# Altium footprint library PcbLib1.PcbLib: 35 footprints (part 2 of 3)
Each footprint in its own frame and in the unit in brackets; x right, y up, seen from the top. Pads: shape width x height; smd on the part's side, far side on the other; paste and mask are expansions set on the pad; w line width, h text height; cw(c..) or ccw(c..) is an arc to the next point about the centre after c.
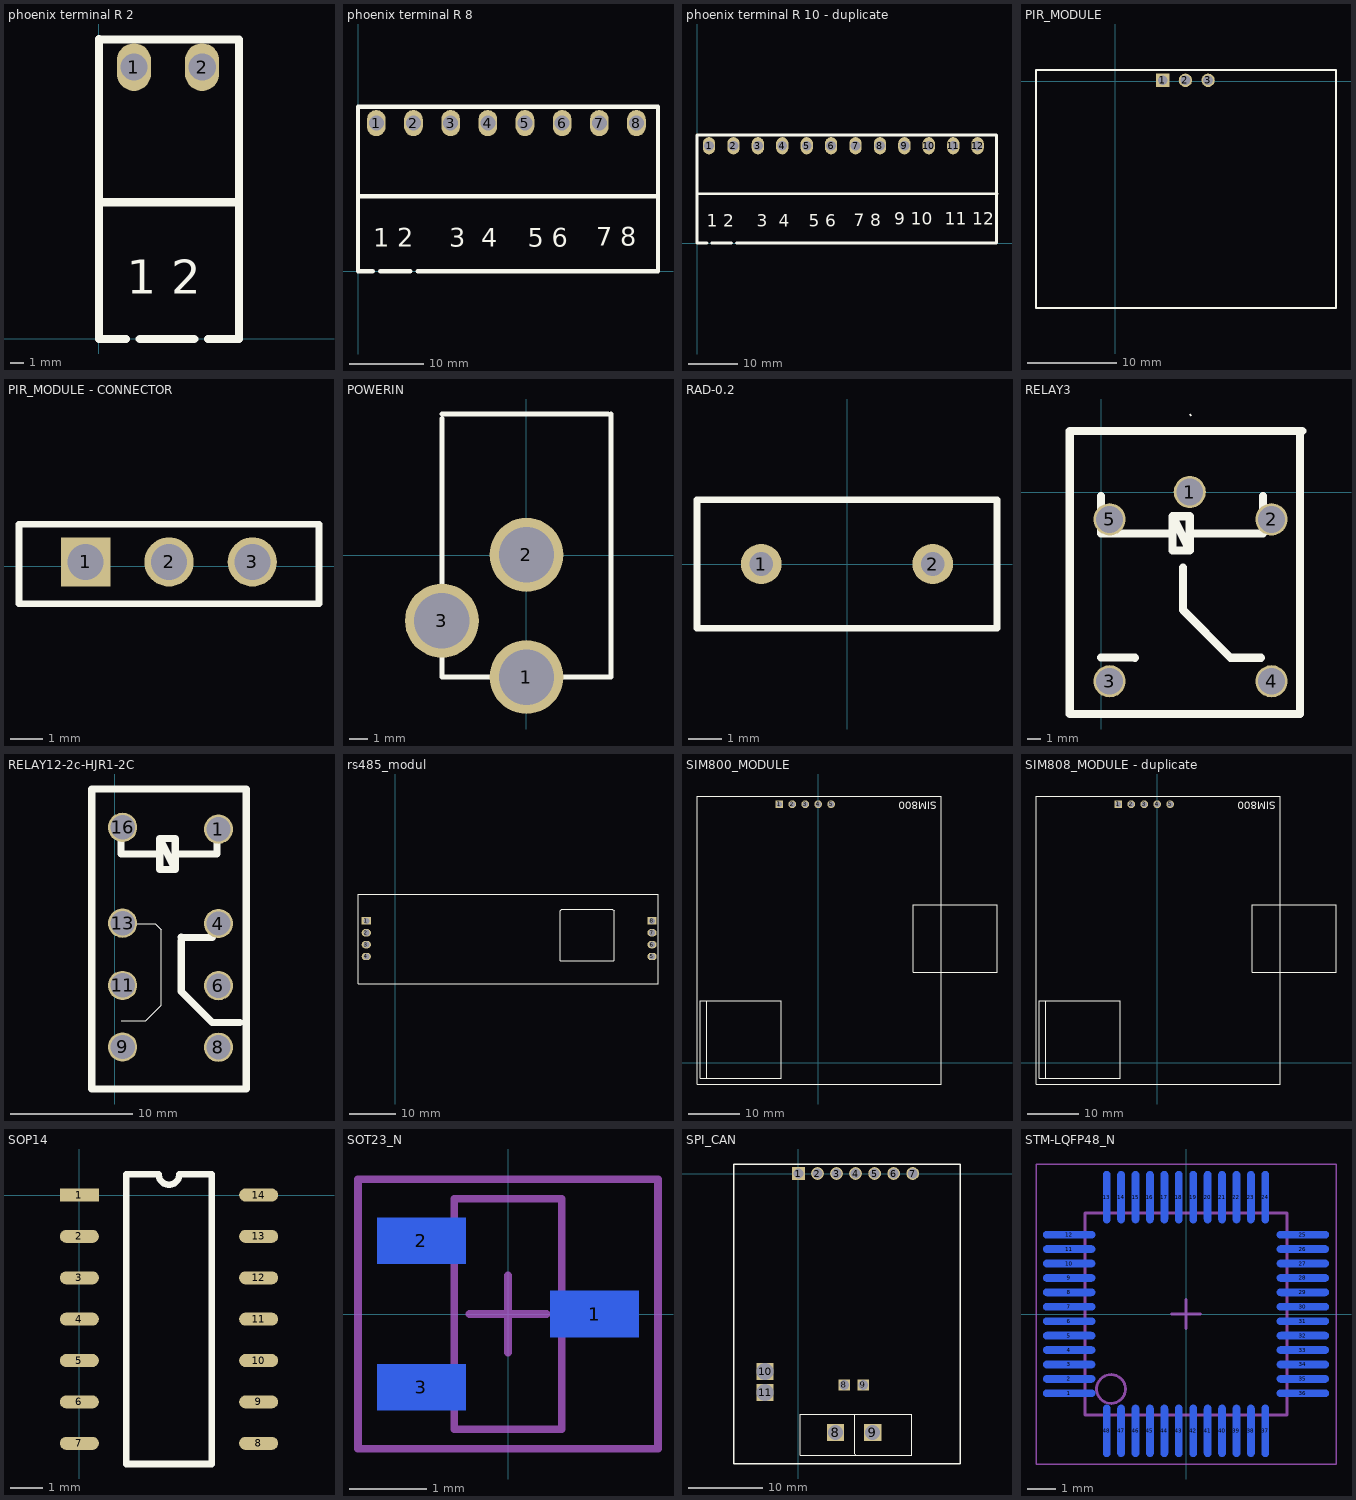
[diagram p1: the footprints below, top view; thin cyan lines are the x and y axes]

## phoenix terminal R 2 [mm] "2 Right terminals"
pads (2):
  oval 2.5x3.5 hole 2: 1(2.573,19.939) 2(7.573,19.939)
Top Overlay:
  lines w0.6: 0,21.971 10.287,21.971 10.287,0 8,0 ; 0,22 0,0 2,0 ; 0.127,10.033 10.287,10.033 ; 3,0 7,0
  text "1 2" at 2.032,3.302 h2.5

## phoenix terminal R 8 [mm] "2 Right terminals"
pads (8):
  oval 2.5x3.5 hole 2: 1(2.446,19.812) 2(7.418,19.812) 3(12.391,19.812) 4(17.363,19.812) 5(22.335,19.812) 6(27.308,19.812) 7(32.28,19.812) 8(37.252,19.812)
Top Overlay:
  lines w0.6: 0,21.971 40.132,21.971 40.132,0 8,0 ; 0,22 0,0 2,0 ; 0.127,10.033 40.132,10.033 ; 3,0 7,0
  text "7 8" at 31.877,3.429 h2.5
  text "5 6" at 22.733,3.302 h2.5
  text "3  4" at 12.192,3.302 h2.5
  text "1 2" at 2.032,3.302 h2.5

## phoenix terminal R 10 - duplicate [mm] "2 Right terminals"
pads (12):
  oval 2.5x3.5 hole 2: 1(2.446,19.812) 2(7.418,19.812) 3(12.391,19.812) 4(17.363,19.812) 5(22.335,19.812) 6(27.308,19.812) 7(32.28,19.812) 8(37.252,19.812) 9(42.225,19.812) 10(47.197,19.812) 11(52.169,19.812) 12(57.142,19.812)
Top Overlay:
  lines w0.6: 0,21.971 60.96,21.971 60.96,0 8,0 ; 0,22 0,0 2,0 ; 0.127,10.033 61.087,10.033 ; 3,0 7,0
  text "9 10" at 40.132,3.683 h2.5
  text "7 8" at 31.877,3.429 h2.5
  text "5 6" at 22.733,3.302 h2.5
  text "3  4" at 12.192,3.302 h2.5
  text "1 2" at 2.032,3.302 h2.5
  text "11 12" at 50.419,3.683 h2.5

## PIR_MODULE [mm] "Connector; Header; 3 Position"
pads (3):
  rect 1.5x1.5 hole 1.1: 1(5.334,0.127)
  round 1.5 hole 1.1: 2(7.874,0.127) 3(10.414,0.127)
Top Overlay:
  lines w0.2: -8.89,-25.4 -8.89,1.27 24.765,1.27 24.765,-25.4 -8.89,-25.4

## PIR_MODULE - CONNECTOR [mm] "Connector; Header; 3 Position"
pads (3):
  rect 1.5x1.5 hole 1.1: 1(5.334,0.127)
  round 1.5 hole 1.1: 2(7.874,0.127) 3(10.414,0.127)
Top Overlay:
  lines w0.2: 3.302,-1.143 12.446,-1.143 12.446,1.27 3.302,1.27 3.302,-1.143

## POWERIN [mm]
height 2.6
pads (3):
  round 4 hole 3: 1(0.007,-6.593) 2(0.007,0.011) 3(-4.565,-3.545)
Top Overlay:
  lines w0.254: -4.565,7.407 -4.565,-6.593 4.579,-6.593 4.579,7.631 ; -4.565,7.631 4.435,7.631

## RAD-0.2 [mm] "Radial Cap, Thru-Hole; 2 Leads; 0.2 in Pin Spacing"
pads (2):
  round 1.2 hole 0.7: 1(-2.54,0) 2(2.54,0)
Top Overlay:
  lines w0.2: -4.445,-1.905 -4.445,1.905 4.445,1.905 4.445,-1.905 -4.445,-1.905

## RELAY3 [mm]
pads (5):
  round 2.4 hole 2: 1(6.604,0.025) 2(12.7,-2.007) 3(0.635,-14.072) 4(12.7,-14.072) 5(0.635,-2.007)
Top Overlay:
  lines w0.1: 6.604,5.842 6.731,5.715
  lines w0.6: 0,-12.294 2.54,-12.319 ; 0,-0.254 0,-3.048 5.334,-3.048 ; 6.096,-5.588 6.096,-8.763 9.652,-12.319 11.913,-12.319 ; 12.065,-0.254 12.065,-3.048 6.604,-3.048 ; 14.834,4.572 14.834,-16.51 -2.337,-16.51 -2.337,4.572 14.986,4.572 ; 5.334,-3.048 5.334,-1.778 ; 5.334,-3.048 5.334,-4.318 6.604,-4.318 ; 5.334,-1.778 6.604,-1.778 6.604,-3.048 ; 5.334,-1.778 6.604,-4.318 ; 6.604,-4.318 6.604,-3.048

## RELAY12-2c-HJR1-2C [mm]
pads (8):
  round 2.4 hole 2: 1(8.509,-6.35) 4(8.509,-14.097) 6(8.509,-19.202) 8(8.509,-24.257) 9(0.635,-24.232) 11(0.635,-19.177) 13(0.635,-14.072) 16(0.635,-6.198)
Top Overlay:
  lines w0.1: 0.508,-22.098 2.54,-22.098 3.81,-20.828 3.81,-14.605 3.302,-14.097 1.27,-14.097
  lines w0.6: 0.508,-5.588 0.508,-8.382 3.683,-8.382 ; 5.461,-15.494 5.461,-19.685 8.001,-22.225 10.262,-22.225 ; 5.461,-15.215 8.001,-15.24 ; 8.382,-5.588 8.382,-8.382 4.953,-8.382 ; 3.683,-8.382 3.683,-9.652 4.953,-9.652 ; 3.683,-8.382 3.683,-7.112 ; 3.683,-7.112 4.953,-9.652 ; 3.683,-7.112 4.953,-7.112 4.953,-8.382 ; 4.953,-9.652 4.953,-8.382 ; -1.905,-27.686 10.795,-27.686 10.795,-3.048 -1.905,-3.048 -1.905,-27.686

## rs485_modul [mm]
pads (8):
  rect 2x1.6 hole 1.3: 1(-6.223,-49.784) 8(54.991,-49.784)
  oval 2x1.6 hole 1.3: 2(-6.223,-52.324) 3(-6.223,-54.864) 4(-6.223,-57.404) 5(54.991,-57.404) 6(54.991,-54.864) 7(54.991,-52.324)
Top Overlay:
  lines w0.1: 35.306,-47.879 35.306,-47.625 ; 35.306,-47.625 35.687,-47.244 46.482,-47.244 46.863,-47.625 46.863,-58.166 46.736,-58.293 35.306,-58.293 35.306,-47.625
  lines w0.2: -8.001,-63.246 -8.001,-44.069 56.261,-44.069 56.261,-63.246 -8.001,-63.246

## SIM800_MODULE [mm] "Connector; Header; 5 Position"
pads (5):
  rect 1.5x1.5 hole 1.1: 1(-7.62,50.673)
  round 1.5 hole 1.1: 2(-5.08,50.673) 3(-2.54,50.673) 4(0,50.673) 5(2.54,50.673)
Top Overlay:
  lines w0.1: -21.844,-2.921 -21.844,12.065 ; 35.052,17.653 35.052,30.988 18.669,30.988 18.669,17.78 35.052,17.78 ; -23.114,-3.048 -7.239,-3.048 -7.239,12.192 -23.114,12.192 -23.114,-3.048
  lines w0.2: -14.859,52.197 11.049,52.197 ; -23.749,-4.191 -23.749,52.197 24.13,52.197 24.13,-4.191 -23.749,-4.191
  text "SIM800" at 23.241,51.181 h1.52

## SIM808_MODULE - duplicate [mm] "Connector; Header; 5 Position"
pads (5):
  rect 1.5x1.5 hole 1.1: 1(-7.62,50.673)
  round 1.5 hole 1.1: 2(-5.08,50.673) 3(-2.54,50.673) 4(0,50.673) 5(2.54,50.673)
Top Overlay:
  lines w0.1: -21.844,-2.921 -21.844,12.065 ; 35.052,17.653 35.052,30.988 18.669,30.988 18.669,17.78 35.052,17.78 ; -23.114,-3.048 -7.239,-3.048 -7.239,12.192 -23.114,12.192 -23.114,-3.048
  lines w0.2: -14.859,52.197 11.049,52.197 ; -23.749,-4.191 -23.749,52.197 24.13,52.197 24.13,-4.191 -23.749,-4.191
  text "SIM800" at 23.241,51.181 h1.52

## SOP14 [mm]
pads (14):
  rect 1.2x0.4 smd: 1(0,0)
  oval 1.2x0.4 smd: 2(0,-1.27) 3(0,-2.54) 4(0,-3.81) 5(0,-5.08) 6(0,-6.35) 7(0,-7.62) 8(5.5,-7.62) 9(5.5,-6.35) 10(5.5,-5.08) 11(5.5,-3.81) 12(5.5,-2.54) 13(5.5,-1.27) 14(5.5,0)
Top Overlay:
  lines w0.2: 1.435,-8.255 4.065,-8.255 4.065,0.635 3.067,0.635 cw(c2.75,0.635) 2.432,0.635 1.435,0.635 1.435,-8.255

## SOT23_N [mm] "SOT23, 3-Leads, Body 2.9x1.3mm, Pitch 0.95mm, Lead Span 2.3mm - Reverse Pinning, IPC Medium Density"
height 1.1
pads (3):
  rect 1.15x0.6 smd far side: 1(1.125,0) 2(-1.125,0.95) 3(-1.125,-0.95)
Bottom Overlay:
  circle w0.25: c1.35,-0.85 r0.125
  lines w0.2: -0.2,-1.5 0.7,-1.5 0.7,-0.7 ; -0.2,1.5 0.7,1.5 0.7,0.7
Mechanical 13:
  lines w0.1: -0.7,-1.5 0.7,-1.5 0.7,1.5 -0.7,1.5 -0.7,-1.5
Mechanical 15:
  lines w0.1: -0.5,0 0.5,0 ; 0,-0.5 0,0.5 ; -1.95,-1.75 1.95,-1.75 1.95,1.75 -1.95,1.75 -1.95,-1.75
3D body: height 1.1, standoff 0, extent -0.7,-1.5 0.7,1.5

## SPI_CAN [mm] "Connector; Header; 8 Position"
pads (13):
  rect 1.7x1.7 hole 1.3: 1(0,0)
  round 1.7 hole 1.3: 2(2.54,0) 3(5.08,0) 4(7.62,0) 5(10.16,0) 6(12.7,0) 7(15.24,0)
  rect 2.3x2.3 hole 2: 8(4.953,-34.544) 9(9.906,-34.544)
  rect 1.5x1.5 hole 1.3: 8(6.096,-28.194) 9(8.636,-28.194)
  rect 2.3x2.3 hole 2.3: 10(-4.445,-26.416) 11(-4.445,-29.21)
Top Overlay:
  lines w0.1: 0.762,-37.592 15.113,-37.592 15.113,-32.131 0.254,-32.131 0.254,-37.592 1.143,-37.592 ; 7.493,-32.131 7.493,-37.338 7.62,-37.465
  lines w0.2: -8.636,-38.735 -8.636,1.27 21.59,1.27 21.59,-38.735 -8.636,-38.735

## STM-LQFP48_N [mm] "QFP, 48-Leads, Body 7x7mm, Pitch 0.5mm, IPC Medium Density"
height 1.6
pads (48):
  oval 1.8x0.254 smd far side: 1(-4.05,-2.75) 2(-4.05,-2.25) 3(-4.05,-1.75) 4(-4.05,-1.25) 5(-4.05,-0.75) 6(-4.05,-0.25) 7(-4.05,0.25) 8(-4.05,0.75) 9(-4.05,1.25) 10(-4.05,1.75) 11(-4.05,2.25) 12(-4.05,2.75) 25(4.05,2.75) 26(4.05,2.25) 27(4.05,1.75) 28(4.05,1.25) 29(4.05,0.75) 30(4.05,0.25) 31(4.05,-0.25) 32(4.05,-0.75) 33(4.05,-1.25) 34(4.05,-1.75) 35(4.05,-2.25) 36(4.05,-2.75)
  oval 0.254x1.8 smd far side: 13(-2.75,4.05) 14(-2.25,4.05) 15(-1.75,4.05) 16(-1.25,4.05) 17(-0.75,4.05) 18(-0.25,4.05) 19(0.25,4.05) 20(0.75,4.05) 21(1.25,4.05) 22(1.75,4.05) 23(2.25,4.05) 24(2.75,4.05) 37(2.75,-4.05) 38(2.25,-4.05) 39(1.75,-4.05) 40(1.25,-4.05) 41(0.75,-4.05) 42(0.25,-4.05) 43(-0.25,-4.05) 44(-0.75,-4.05) 45(-1.25,-4.05) 46(-1.75,-4.05) 47(-2.25,-4.05) 48(-2.75,-4.05)
Bottom Overlay:
  circle w0.6: c-1.75,-1.75 r0.3
  circle w0.25: c-4.05,-3.45 r0.125
  lines w0.2: -2.75,-2.75 2.75,-2.75 2.75,2.75 -2.75,2.75 -2.75,-2.75
Mechanical 13:
  circle w0.1: c-2.6,-2.6 r0.5
  lines w0.1: -3.5,-3.5 3.5,-3.5 3.5,3.5 -3.5,3.5 -3.5,-3.5
Mechanical 15:
  lines w0.05: -5.2,-5.2 5.2,-5.2 5.2,5.2 -5.2,5.2 -5.2,-5.2
  lines w0.1: -0.5,0 0.5,0 ; 0,-0.5 0,0.5
3D body: height 1.6, standoff 0.05, extent -3.5,-3.5 3.5,3.5